# Altium schematic symbol library SI5351A-B-GTR.SchLib: 1 symbol
Pins are listed as number, name and electrical type; pins without a type are passive.

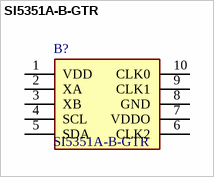
[diagram p0: symbol SI5351A-B-GTR]

## SI5351A-B-GTR
designator B?
Clock Generator 10MHz to 100MHz-IN 160MHz-OUT 10-Pin MSOP T/R; Manufacturer_Name: Skyworks; Geometry.Height: 1.1mm; Mouser Part Number: 634-SI5351A-B-GTR; Mouser Price/Stock: https://www.mouser.co.uk/ProductDetail/Skyworks-Solutions-Inc/SI5351A-B-GTR?qs=p9T7GgSe1IEYql%252BRMAlVcw%3D%3D; Manufacturer_Part_Number: SI5351A-B-GTR; Datasheet Link: https://www.mouser.de/datasheet/2/472/Si5351_B-2507774.pdf
footprint SOP50P490X110-10N
pins: 1 VDD, 2 XA, 3 XB, 4 SCL, 5 SDA, 6 CLK2, 7 VDDO, 8 GND, 9 CLK1, 10 CLK0